# Altium schematic symbol library LM2596TVADJG.SchLib: 2 symbols
Pins are listed as number, name and electrical type; pins without a type are passive.

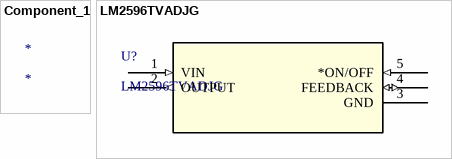
[diagram p0: symbols Component_1 to LM2596TVADJG]

## Component_1
designator *

## LM2596TVADJG
designator U?
No Description Available; Mfr_Name: onsemi; Copyright: Copyright (C) 2022 Ultra Librarian. All rights reserved.; Manufacturer_Part_Number: LM2596TVADJG; RefDes: RefDes; Type: DEV
footprint TO220-5_ONS
pins: 1 VIN (in), 2 OUTPUT (out), 3 GND (power), 4 FEEDBACK (io), 5 *ON/OFF (in)